# Altium schematic symbol library USB.SchLib: 1 symbol
Pins are listed as number, name and electrical type; pins without a type are passive.

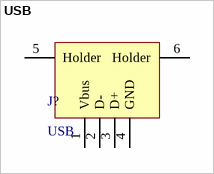
[diagram p0: symbol USB]

## USB
designator J?
footprint USB-B
footprint USB-A-MALE
pins: 1 Vbus, 2 D-, 3 D+, 4 GND, 5 Holder, 6 Holder